# Altium footprint library SamacSys.PcbLib: 21 footprints (part 1 of 2)
Each footprint in its own frame and in the unit in brackets; x right, y up, seen from the top. Pads: shape width x height; smd on the part's side, far side on the other; paste and mask are expansions set on the pad; w line width, h text height; cw(c..) or ccw(c..) is an arc to the next point about the centre after c.
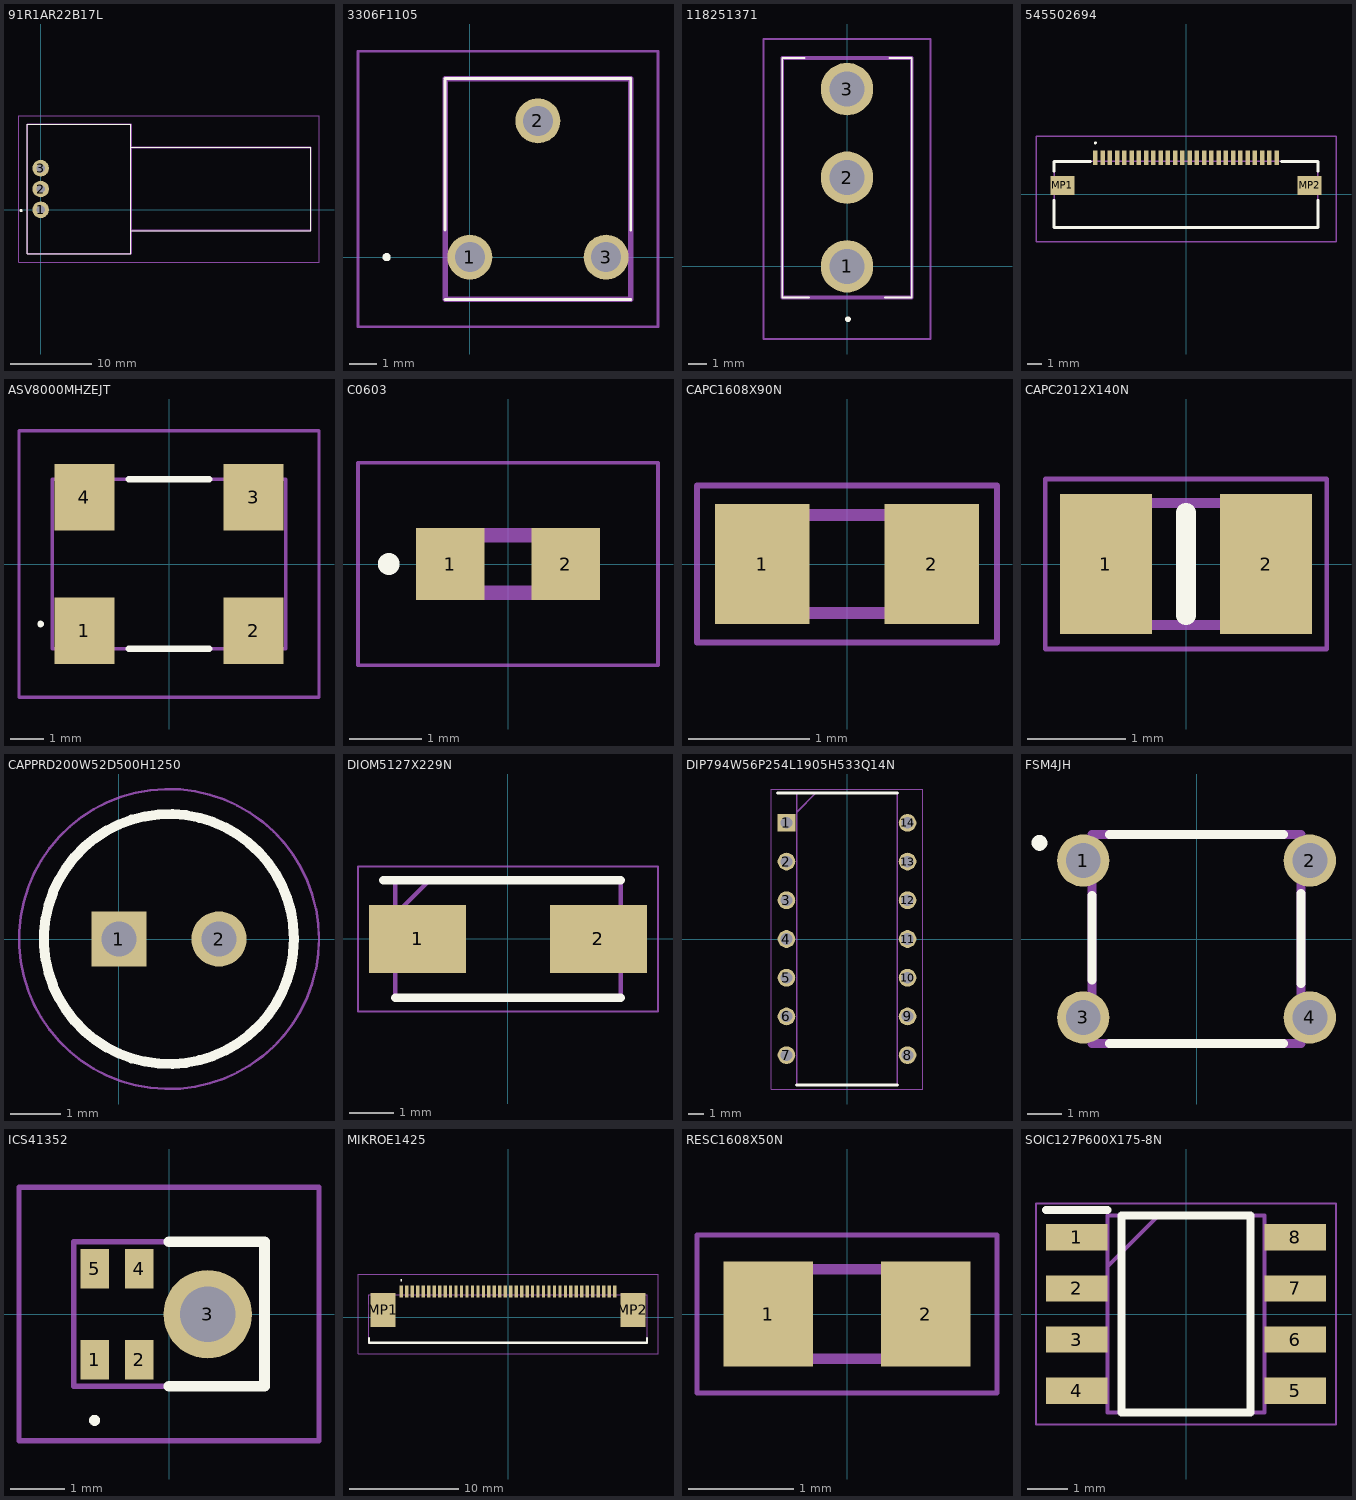
[diagram p0: the footprints below, top view; thin cyan lines are the x and y axes]

## 91R1AR22B17L [mm]
pads (3):
  round 2.025 hole 1.01: 1(0,0) 2(0,2.54) 3(0,5.08)
Top Overlay:
  lines w0.1: 11.05,-2.54 33.05,-2.54 33.05,7.62 11.05,7.62 ; -1.65,-5.4 11.05,-5.4 11.05,10.48 -1.65,10.48 -1.65,-5.4
  lines w0.2: -2.4,-0.2 ccw(c-2.4,-0.1) -2.4,0 ccw(c-2.4,-0.1) -2.4,-0.2
Mechanical 13:
  lines w0.2: 11.05,-2.54 33.05,-2.54 33.05,7.62 11.05,7.62 ; -1.65,-5.4 11.05,-5.4 11.05,10.48 -1.65,10.48 -1.65,-5.4
Mechanical 15:
  lines w0.1: -2.65,-6.4 34.05,-6.4 34.05,11.48 -2.65,11.48 -2.65,-6.4

## 3306F1105 [mm]
pads (3):
  round 1.65 hole 1.1: 1(0,0) 2(2.5,5) 3(5,0)
Top Overlay:
  lines w0.1: 5.905,6.55 5.905,1 5.905,6.55 ; 5.905,6.55 -0.905,6.55 5.905,6.55 ; -0.905,-1.55 5.905,-1.55 -0.905,-1.55 ; -0.905,1 -0.905,6.5 -0.905,1
  lines w0.2: -3.1,0 ccw(c-3.05,0) -3,0 ; -3.1,0 cw(c-3.05,0) -3,0 ; -3.1,0 ccw(c-3.05,0) -3,0
Mechanical 13:
  lines w0.2: -0.905,-1.55 -0.905,6.55 5.905,6.55 5.905,-1.55 -0.905,-1.55
Mechanical 15:
  lines w0.1: -4.1,-2.55 -4.1,7.55 6.905,7.55 6.905,-2.55 -4.1,-2.55
3D body "3306F-1-105.stp": height 8.48, standoff -5, extent -0.905,-1.55 5.905,6.55

## 118251371 [mil]
pads (3):
  round 109.49 hole 73: 1(0,0) 2(0,185) 3(0,370)
Top Overlay:
  lines w3.94: -135,-65 -78.74,-65 -135,-65 ; -135,-65 -135,435 ; -135,-65 -135,435 ; -135,435 -88.58,435 -135,435 ; 135,-65 135,435 ; 135,-65 135,435 ; 135,-65 78.74,-65 135,-65 ; 135,435 88.58,435 135,435
  lines w7.87: 0,-110.24 ccw(c1.97,-110.24) 3.94,-110.24 ; 0,-110.24 cw(c1.97,-110.24) 3.94,-110.24 ; 0,-110.24 ccw(c1.97,-110.24) 3.94,-110.24
Mechanical 13:
  lines w7.87: -135,-65 -135,435 135,435 135,-65 -135,-65
Mechanical 15:
  lines w3.94: -174.37,-151.57 -174.37,474.37 174.37,474.37 174.37,-151.57 -174.37,-151.57
3D body "1-1825137-1.stp": height 1113.94, standoff -196.85, extent -135,-65 135,435

## 545502694 [mm]
pads (28):
  rect 0.3x1 smd: 1(-6.25,2.525) 2(-5.75,2.525) 3(-5.25,2.525) 4(-4.75,2.525) 5(-4.25,2.525) 6(-3.75,2.525) 7(-3.25,2.525) 8(-2.75,2.525) 9(-2.25,2.525) 10(-1.75,2.525) 11(-1.25,2.525) 12(-0.75,2.525) 13(-0.25,2.525) 14(0.25,2.525) 15(0.75,2.525) 16(1.25,2.525) 17(1.75,2.525) 18(2.25,2.525) 19(2.75,2.525) 20(3.25,2.525) 21(3.75,2.525) 22(4.25,2.525) 23(4.75,2.525) 24(5.25,2.525) 25(5.75,2.525) 26(6.25,2.525)
  rect 1.65x1.3 smd: MP1(-8.525,0.625) MP2(8.525,0.625)
Top Overlay:
  lines w0.1: -6.25,3.5 ccw(c-6.25,3.55) -6.25,3.6 ccw(c-6.25,3.55) -6.25,3.5
  lines w0.2: -9.1,-0.4 -9.1,-2.275 9.1,-2.275 9.1,-0.4 ; -9.1,1.6 -9.1,2.275 -6.6,2.275 ; 6.6,2.275 9.1,2.275 9.1,1.6
Mechanical 13:
  lines w0.1: -9.1,-2.275 -9.1,2.275 9.1,2.275 9.1,-2.275 -9.1,-2.275
Mechanical 15:
  lines w0.1: -10.35,-3.275 -10.35,4.025 10.35,4.025 10.35,-3.275 -10.35,-3.275
3D body "54550-2694.stp": height 1.2, standoff 0, extent -9.1,-2.12 9.1,2.88

## ASV8000MHZEJT [mm]
pads (4):
  rect 1.8x2 smd: 1(-2.54,-2) 2(2.54,-2) 3(2.54,2) 4(-2.54,2)
Top Overlay:
  lines w0.1: -3.9,-1.8 ccw(c-3.85,-1.8) -3.8,-1.8 ccw(c-3.85,-1.8) -3.9,-1.8
  lines w0.2: -1.2,-2.54 1.2,-2.54 ; -1.2,2.54 1.2,2.54
Mechanical 13:
  lines w0.1: -3.5,-2.54 -3.5,2.54 3.5,2.54 3.5,-2.54 -3.5,-2.54
Mechanical 15:
  lines w0.1: -4.5,-4 -4.5,4 4.5,4 4.5,-4 -4.5,-4
3D body "ASV-8.000MHZ-EJ-T.stp": height 1.9, standoff 0, extent -3.5,-2.82 3.5,2.82

## C0603 [mm]
pads (2):
  rect 0.95x1 smd: 1(-0.8,0) 2(0.8,0)
Top Overlay:
  circle w0.2: c-1.65,0 r0.05
Mechanical 13:
  lines w0.2: -0.8,-0.4 -0.8,0.4 0.8,0.4 0.8,-0.4 -0.8,-0.4
Mechanical 15:
  lines w0.05: -2.075,-1.4 -2.075,1.4 2.075,1.4 2.075,-1.4 -2.075,-1.4
3D body "C0603C104J3RACTU.stp": height 0.95, standoff 0, extent -0.87,-0.48 0.88,0.47

## CAPC1608X90N [mm]
pads (2):
  rect 0.78x0.99 smd: 1(-0.7,0) 2(0.7,0)
Mechanical 13:
  lines w0.1: -0.8,-0.405 -0.8,0.405 0.8,0.405 0.8,-0.405 -0.8,-0.405
Mechanical 15:
  lines w0.05: -1.24,-0.65 -1.24,0.65 1.24,0.65 1.24,-0.65 -1.24,-0.65
3D body "0603YC104K4Z2A.stp": height 0.9, standoff 0, extent -0.8,-0.405 0.8,0.405

## CAPC2012X140N [mm]
pads (2):
  rect 0.94x1.43 smd: 1(-0.82,0) 2(0.82,0)
Top Overlay:
  lines w0.2: 0,-0.525 0,0.525
Mechanical 13:
  lines w0.1: -1,-0.625 -1,0.625 1,0.625 1,-0.625 -1,-0.625
Mechanical 15:
  lines w0.05: -1.44,-0.87 -1.44,0.87 1.44,0.87 1.44,-0.87 -1.44,-0.87
3D body "GCM21BR71C475KA73K.stp": height 1.4, standoff 0, extent -1,-0.625 1,0.625

## CAPPRD200W52D500H1250 [mm]
pads (2):
  rect 1.1x1.1 hole 0.7: 1(0,0)
  round 1.1 hole 0.7: 2(2,0)
Top Overlay:
  circle w0.2: c1,0 r2.5
Mechanical 13:
  circle w0.1: c1,0 r2.5
Mechanical 15:
  circle w0.05: c1,0 r3
3D body "860010672001.stp": height 12.5, standoff -10, extent -1.75,-2.75 3.75,2.75

## DIOM5127X229N [mm]
pads (2):
  rect 2.2x1.55 smd: 1(-2.05,0) 2(2.05,0)
Top Overlay:
  lines w0.2: -2.825,1.332 2.552,1.332 ; -2.552,-1.332 2.552,-1.332
Mechanical 13:
  lines w0.1: -2.552,0.558 -1.778,1.332 ; -2.552,-1.332 -2.552,1.332 2.552,1.332 2.552,-1.332 -2.552,-1.332
Mechanical 15:
  lines w0.05: -3.4,-1.645 -3.4,1.645 3.4,1.645 3.4,-1.645 -3.4,-1.645
3D body "SS16-E3_61T.stp": height 2.29, standoff 0, extent -2.552,-1.332 2.552,1.332

## DIP794W56P254L1905H533Q14N [mm]
pads (14):
  rect 1.159x1.159 hole 0.759: 1(-3.969,7.62)
  round 1.159 hole 0.759: 2(-3.969,5.08) 3(-3.969,2.54) 4(-3.969,0) 5(-3.969,-2.54) 6(-3.969,-5.08) 7(-3.969,-7.62) 8(3.969,-7.62) 9(3.969,-5.08) 10(3.969,-2.54) 11(3.969,0) 12(3.969,2.54) 13(3.969,5.08) 14(3.969,7.62)
Top Overlay:
  lines w0.2: -4.548,9.588 3.302,9.588 ; -3.302,-9.588 3.302,-9.588
Mechanical 13:
  lines w0.1: -3.302,8.318 -2.032,9.588 ; -3.302,-9.588 -3.302,9.588 3.302,9.588 3.302,-9.588 -3.302,-9.588
Mechanical 15:
  lines w0.05: -4.957,-9.838 -4.957,9.838 4.957,9.838 4.957,-9.838 -4.957,-9.838
3D body "LM324N_NOPB.stp": height 4.38, standoff -3.01, extent -4.254,-9.525 4.254,9.525

## FSM4JH [mm]
pads (4):
  round 1.5 hole 1: 1(-3.25,2.25) 2(3.25,2.25) 3(-3.25,-2.25) 4(3.25,-2.25)
Top Overlay:
  circle w0.254: c-4.504,2.757 r0.099
  lines w0.254: -2.995,-1.18 -2.995,1.256 ; -2.5,-2.995 2.5,-2.995 ; -2.5,2.995 2.5,2.995 ; 2.995,-1.279 2.995,1.312
Mechanical 13:
  lines w0.254: -2.995,-2.995 -2.995,2.995 2.995,2.995 2.995,-2.995 -2.995,-2.995
3D body "1-1825910-8.stp": height 5.95, standoff -4.86, extent -3.9,-2.995 3.9,2.995

## ICS41352 [mm]
pads (5):
  rect 0.522x0.725 smd: 1(-1.364,-0.842) 2(-0.542,-0.842) 4(-0.542,0.833) 5(-1.364,0.833)
  round 1.625 hole 1.025: 3(0.71,-0.005)
Top Overlay:
  lines w0.1: -1.364,-2 cw(c-1.364,-1.95) -1.364,-1.9 cw(c-1.364,-1.95) -1.364,-2
  lines w0.2: 0,-1.325 1.75,-1.325 1.75,1.325 0,1.325
Mechanical 13:
  lines w0.1: -1.75,-1.325 -1.75,1.325 1.75,1.325 1.75,-1.325 -1.75,-1.325
Mechanical 15:
  lines w0.1: -2.75,-2.325 -2.75,2.325 2.75,2.325 2.75,-2.325 -2.75,-2.325
3D body "ICS-41350.stp": height 0.95, standoff -0.03, extent -1.75,-1.325 1.75,1.325

## MIKROE1425 [mm]
pads (42):
  rect 0.3x1.1 smd: 1(-9.75,2.35) 2(-9.25,2.35) 3(-8.75,2.35) 4(-8.25,2.35) 5(-7.75,2.35) 6(-7.25,2.35) 7(-6.75,2.35) 8(-6.25,2.35) 9(-5.75,2.35) 10(-5.25,2.35) 11(-4.75,2.35) 12(-4.25,2.35) 13(-3.75,2.35) 14(-3.25,2.35) 15(-2.75,2.35) 16(-2.25,2.35) 17(-1.75,2.35) 18(-1.25,2.35) 19(-0.75,2.35) 20(-0.25,2.35) 21(0.25,2.35) 22(0.75,2.35) 23(1.25,2.35) 24(1.75,2.35) 25(2.25,2.35) 26(2.75,2.35) 27(3.25,2.35) 28(3.75,2.35) 29(4.25,2.35) 30(4.75,2.35) 31(5.25,2.35) 32(5.75,2.35) 33(6.25,2.35) 34(6.75,2.35) 35(7.25,2.35) 36(7.75,2.35) 37(8.25,2.35) 38(8.75,2.35) 39(9.25,2.35) 40(9.75,2.35)
  rect 2.3x3.1 smd: MP1(-11.42,0.65) MP2(11.42,0.65)
Top Overlay:
  lines w0.1: -9.75,3.3 ccw(c-9.75,3.35) -9.75,3.4 ccw(c-9.75,3.35) -9.75,3.3
  lines w0.2: -12.715,-1.95 -12.715,-2.35 12.715,-2.35 12.715,-1.95
Mechanical 13:
  lines w0.1: -12.715,-2.35 -12.715,2.05 12.715,2.05 12.715,-2.35 -12.715,-2.35
Mechanical 15:
  lines w0.1: -13.715,-3.35 -13.715,3.9 13.715,3.9 13.715,-3.35 -13.715,-3.35
3D body "MIKROE-1425.stp": height 2.25, standoff 0, extent -12.715,-2.35 12.715,2.05

## RESC1608X50N [mm]
pads (2):
  rect 0.85x1 smd: 1(-0.75,0) 2(0.75,0)
Mechanical 13:
  lines w0.1: -0.788,-0.425 -0.788,0.425 0.788,0.425 0.788,-0.425 -0.788,-0.425
Mechanical 15:
  lines w0.05: -1.425,-0.75 -1.425,0.75 1.425,0.75 1.425,-0.75 -1.425,-0.75
3D body "CRCW0603910KFKEA.stp": height 0.5, standoff 0, extent -0.787,-0.425 0.787,0.425

## SOIC127P600X175-8N [mm]
pads (8):
  rect 1.525x0.65 smd: 1(-2.712,1.905) 2(-2.712,0.635) 3(-2.712,-0.635) 4(-2.712,-1.905) 5(2.712,-1.905) 6(2.712,-0.635) 7(2.712,0.635) 8(2.712,1.905)
Top Overlay:
  lines w0.2: -3.475,2.58 -1.95,2.58 ; -1.6,-2.45 1.6,-2.45 1.6,2.45 -1.6,2.45 -1.6,-2.45
Mechanical 13:
  lines w0.1: -1.95,1.18 -0.68,2.45 ; -1.95,-2.45 1.95,-2.45 1.95,2.45 -1.95,2.45 -1.95,-2.45
Mechanical 15:
  lines w0.05: -3.725,-2.75 3.725,-2.75 3.725,2.75 -3.725,2.75 -3.725,-2.75
3D body "NE555DR.stp": height 1.75, standoff 0, extent -3,-2.45 3,2.45